# EAGLE library part TPS6734 (library eagle-library-edeca.net-v5)
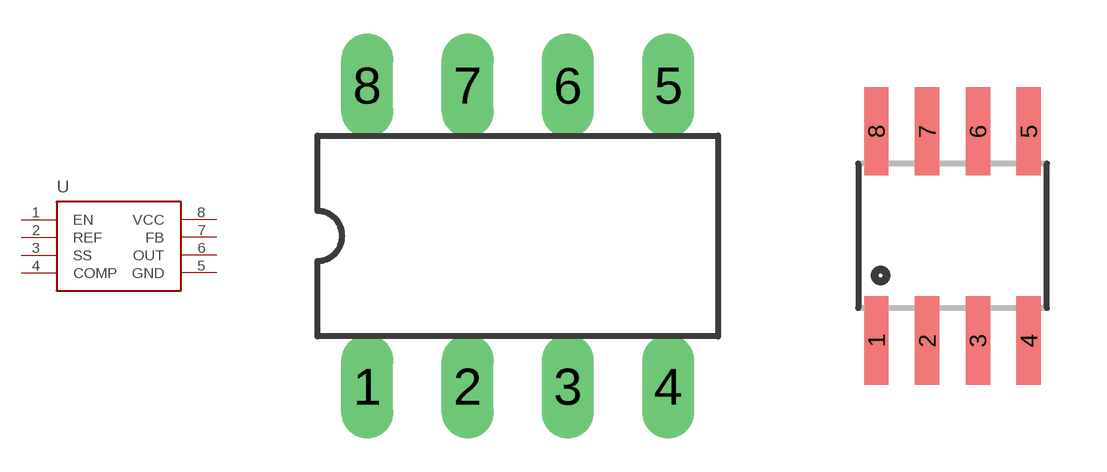
[diagram p14: symbol with the pads of DIL8; footprints DIL8, SO8]

Designator prefix -

## TPS6734P  [DIL8]
1  EN
2  REF
3  SS
4  COMP
5  GND
6  OUT
7  FB
8  VCC  pwr

## TPS6734D  [SO8]
Pads as for DIL8

## Footprint DIL8 (pad centres in mm)
drill 0.813 long: 1 -3.81,-3.81; 2 -1.27,-3.81; 3 1.27,-3.81; 4 3.81,-3.81; 5 3.81,3.81; 6 1.27,3.81; 7 -1.27,3.81; 8 -3.81,3.81

## Footprint SO8 (pad centres in mm)
smd 0.61 x 2.21: 1 -1.905,-2.616; 2 -0.635,-2.616; 3 0.635,-2.616; 4 1.905,-2.616; 5 1.905,2.616; 6 0.635,2.616; 7 -0.635,2.616; 8 -1.905,2.616